# Altium integrated library TJA1050.IntLib: 1 symbol
Pins are listed as number, name and electrical type; pins without a type are passive.

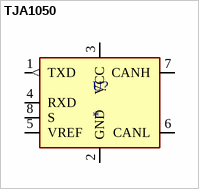
[diagram p0: symbol TJA1050]

## TJA1050
designator U?
CAN 1MBd Silent 5V Automotive 8-Pin SO T/R; MF: NXP Semiconductors; MP: TJA1050; SnapEDA_Link: https://www.snapeda.com/parts/TJA1050/NXP+Semiconductors/view-part/?ref=snap; Package: None; Value: *; Check_prices: https://www.snapeda.com/parts/TJA1050/NXP+Semiconductors/view-part/?ref=eda
footprint SOT96-1
pins: 1 TXD (out), 2 GND (io), 3 VCC (io), 4 RXD (io), 5 VREF, 6 CANL (io), 7 CANH (io), 8 S (power)